# EAGLE library part HILFSSCHUETZ_13-14_23-24 (library e-schuetze-relais)
Hilfsschütz mit 2 Schließern
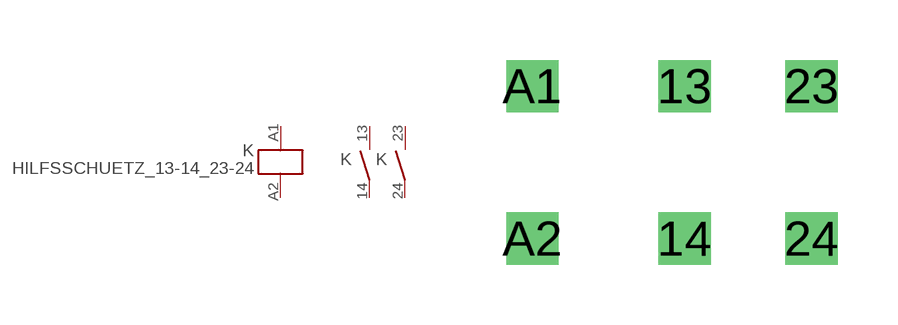
[diagram p10: symbol with the pads of HILFSSCHUETZ_13-14_23-24; footprint HILFSSCHUETZ_13-14_23-24]

Designator prefix K; gates _=SPULE 1=SCHLIESSER 2=SCHLIESSER

## HILFSSCHUETZ_13-14_23-24  [HILFSSCHUETZ_13-14_23-24]
13  1:3  pas
14  1:4  pas
23  2:3  pas
24  2:4  pas
A1  _:A1  in
A2  _:A2  in

## Footprint HILFSSCHUETZ_13-14_23-24 (pad centres in mm)
Dummy
drill 0.8 square: 13 0,1.905; 14 0,-1.905; 23 3.175,1.905; 24 3.175,-1.905; A1 -3.81,1.905; A2 -3.81,-1.905